# Altium footprint library HMC625BLP5E.PcbLib: 3 footprints
Each footprint in its own frame and in the unit in brackets; x right, y up, seen from the top. Pads: shape width x height; smd on the part's side, far side on the other; paste and mask are expansions set on the pad; w line width, h text height; cw(c..) or ccw(c..) is an arc to the next point about the centre after c.
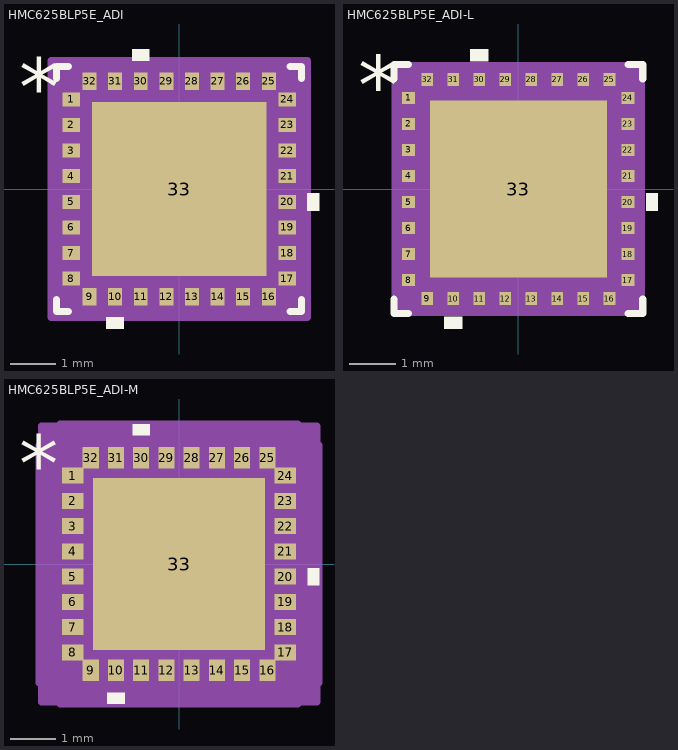
[diagram p0: the footprints below, top view; thin cyan lines are the x and y axes]

## HMC625BLP5E_ADI [mil]
pads (33):
  rect 15x12 smd paste+0 mask+0: 1(-92.89,77.17) 2(-92.89,55.12) 3(-92.89,33.07) 4(-92.89,11.02) 5(-92.89,-11.02) 6(-92.89,-33.07) 7(-92.89,-55.12) 8(-92.89,-77.17) 17(92.89,-77.17) 18(92.89,-55.12) 19(92.89,-33.07) 20(92.89,-11.02) 21(92.89,11.02) 22(92.89,33.07) 23(92.89,55.12) 24(92.89,77.17)
  rect 12x15 smd paste+0 mask+0: 9(-77.17,-92.89) 10(-55.12,-92.89) 11(-33.07,-92.89) 12(-11.02,-92.89) 13(11.02,-92.89) 14(33.07,-92.89) 15(55.12,-92.89) 16(77.17,-92.89) 25(77.17,92.89) 26(55.12,92.89) 27(33.07,92.89) 28(11.02,92.89) 29(-11.02,92.89) 30(-33.07,92.89) 31(-55.12,92.89) 32(-77.17,92.89)
  rect 150x150 smd paste-75 mask+0: 33(0,0)
Top Overlay:
  region: -47.62,-110.39 -62.62,-110.39 -62.62,-120.39 -47.62,-120.39
  region: 110.39,-3.52 120.39,-3.52 120.39,-18.52 110.39,-18.52
  region: -25.57,110.39 -40.57,110.39 -40.57,120.39 -25.57,120.39
  lines w6: -105.5,-95.23 -105.5,-105.5 -95.23,-105.5 ; -105.5,95.23 -105.5,105.5 -95.23,105.5 ; 95.23,-105.5 105.5,-105.5 105.5,-95.23 ; 95.23,105.5 105.5,105.5 105.5,95.23
  text "*" at -137.89,63.19 h50
  text ".Designator" at -137.5,-25 h50
Top Paste:
  region: -28.94,71.06 -71.06,71.06 -71.06,28.94 -28.94,28.94
  region: -28.94,21.06 -71.06,21.06 -71.06,-21.06 -28.94,-21.06
  region: -28.94,-28.94 -71.06,-28.94 -71.06,-71.06 -28.94,-71.06
  region: 21.06,71.06 -21.06,71.06 -21.06,28.94 21.06,28.94
  region: 21.06,21.06 -21.06,21.06 -21.06,-21.06 21.06,-21.06
  region: 21.06,-28.94 -21.06,-28.94 -21.06,-71.06 21.06,-71.06
  region: 71.06,71.06 28.94,71.06 28.94,28.94 71.06,28.94
  region: 71.06,21.06 28.94,21.06 28.94,-21.06 71.06,-21.06
  region: 71.06,-28.94 28.94,-28.94 28.94,-71.06 71.06,-71.06
Mechanical 13:
  lines w1: -100.5,50.5 -50.5,100.5 ; -100.5,-100.5 100.5,-100.5 ; -100.5,-100.5 -100.5,100.5 ; -100.5,-100.5 -100.5,-100.5 ; -100.5,100.5 100.5,100.5 ; -100.5,100.5 -100.5,100.5 ; 100.5,-100.5 100.5,-100.5 ; 100.5,-100.5 100.5,100.5 ; 100.5,100.5 100.5,100.5 ; -100.5,-83.17 -100.5,-71.17 -100.39,-71.17 -100.39,-83.17 -100.5,-83.17 ; -100.5,-61.12 -100.5,-49.12 -100.39,-49.12 -100.39,-61.12 -100.5,-61.12 ; -100.5,-39.07 -100.5,-27.07 -100.39,-27.07 -100.39,-39.07 -100.5,-39.07 ; -100.5,-17.02 -100.5,-5.02 -100.39,-5.02 -100.39,-17.02 -100.5,-17.02 ; -100.5,5.02 -100.5,17.02 -100.39,17.02 -100.39,5.02 -100.5,5.02 ; -100.5,27.07 -100.5,39.07 -100.39,39.07 -100.39,27.07 -100.5,27.07 ; -100.5,49.12 -100.5,61.12 -100.39,61.12 -100.39,49.12 -100.5,49.12 ; -100.5,71.17 -100.5,83.17 -100.39,83.17 -100.39,71.17 -100.5,71.17 ; -83.17,-100.5 -71.17,-100.5 -71.17,-100.39 -83.17,-100.39 -83.17,-100.5 ; -83.17,100.39 -71.17,100.39 -71.17,100.5 -83.17,100.5 -83.17,100.39 ; -61.12,-100.5 -49.12,-100.5 -49.12,-100.39 -61.12,-100.39 -61.12,-100.5 ; -61.12,100.39 -49.12,100.39 -49.12,100.5 -61.12,100.5 -61.12,100.39 ; -39.07,-100.5 -27.07,-100.5 -27.07,-100.39 -39.07,-100.39 -39.07,-100.5 ; -39.07,100.39 -27.07,100.39 -27.07,100.5 -39.07,100.5 -39.07,100.39 ; -17.02,-100.5 -5.02,-100.5 -5.02,-100.39 -17.02,-100.39 -17.02,-100.5 ; -17.02,100.39 -5.02,100.39 -5.02,100.5 -17.02,100.5 -17.02,100.39 ; 5.02,-100.5 17.02,-100.5 17.02,-100.39 5.02,-100.39 5.02,-100.5 ; 5.02,100.39 17.02,100.39 17.02,100.5 5.02,100.5 5.02,100.39 ; 27.07,-100.5 39.07,-100.5 39.07,-100.39 27.07,-100.39 27.07,-100.5 ; 27.07,100.39 39.07,100.39 39.07,100.5 27.07,100.5 27.07,100.39 ; 49.12,-100.5 61.12,-100.5 61.12,-100.39 49.12,-100.39 49.12,-100.5 ; 49.12,100.39 61.12,100.39 61.12,100.5 49.12,100.5 49.12,100.39 ; 71.17,-100.5 83.17,-100.5 83.17,-100.39 71.17,-100.39 71.17,-100.5 ; 71.17,100.39 83.17,100.39 83.17,100.5 71.17,100.5 71.17,100.39 ; 100.39,-83.17 100.5,-83.17 100.5,-71.17 100.39,-71.17 100.39,-83.17 ; 100.39,-61.12 100.5,-61.12 100.5,-49.12 100.39,-49.12 100.39,-61.12 ; 100.39,-39.07 100.5,-39.07 100.5,-27.07 100.39,-27.07 100.39,-39.07 ; 100.39,-17.02 100.5,-17.02 100.5,-5.02 100.39,-5.02 100.39,-17.02 ; 100.39,5.02 100.5,5.02 100.5,17.02 100.39,17.02 100.39,5.02 ; 100.39,27.07 100.5,27.07 100.5,39.07 100.39,39.07 100.39,27.07 ; 100.39,49.12 100.5,49.12 100.5,61.12 100.39,61.12 100.39,49.12 ; 100.39,71.17 100.5,71.17 100.5,83.17 100.39,83.17 100.39,71.17
  text ".Designator" at -137.5,-25 h50
  text "*" at -97.89,63.19 h50
Mechanical 15:
  region: -93.17,-110.5 -110.5,-110.5 -110.5,-93.17 -110.5,93.17 -110.5,110.5 -93.17,110.5 93.17,110.5 110.5,110.5 110.5,93.17 110.5,-93.17 110.5,-110.5 93.17,-110.5
  lines w6: -110.5,-93.17 -110.5,-110.5 -93.17,-110.5 ; -110.5,-93.17 -110.5,-93.17 ; -110.5,-93.17 -110.5,93.17 ; -110.5,93.17 -110.5,93.17 ; -110.5,93.17 -110.5,110.5 -93.17,110.5 ; -93.17,-110.5 93.17,-110.5 ; -93.17,-110.5 -93.17,-110.5 ; -93.17,110.5 -93.17,110.5 ; -93.17,110.5 93.17,110.5 ; 93.17,-110.5 110.5,-110.5 110.5,-93.17 ; 93.17,-110.5 93.17,-110.5 ; 93.17,110.5 93.17,110.5 ; 93.17,110.5 110.5,110.5 110.5,93.17 ; 110.5,-93.17 110.5,93.17 ; 110.5,-93.17 110.5,-93.17 ; 110.5,93.17 110.5,93.17
3D body "HMC625BLP5E_ADI.step": height 39.09, standoff 0, extent -100.51,-100.51 100.51,100.51

## HMC625BLP5E_ADI-L [mil]
pads (33):
  rect 11x10 smd paste+0 mask+0: 1(-92.89,77.17) 2(-92.89,55.12) 3(-92.89,33.07) 4(-92.89,11.02) 5(-92.89,-11.02) 6(-92.89,-33.07) 7(-92.89,-55.12) 8(-92.89,-77.17) 17(92.89,-77.17) 18(92.89,-55.12) 19(92.89,-33.07) 20(92.89,-11.02) 21(92.89,11.02) 22(92.89,33.07) 23(92.89,55.12) 24(92.89,77.17)
  rect 10x11 smd paste+0 mask+0: 9(-77.17,-92.89) 10(-55.12,-92.89) 11(-33.07,-92.89) 12(-11.02,-92.89) 13(11.02,-92.89) 14(33.07,-92.89) 15(55.12,-92.89) 16(77.17,-92.89) 25(77.17,92.89) 26(55.12,92.89) 27(33.07,92.89) 28(11.02,92.89) 29(-11.02,92.89) 30(-33.07,92.89) 31(-55.12,92.89) 32(-77.17,92.89)
  rect 150x150 smd paste-75 mask+0: 33(0,0)
Top Overlay:
  region: -47.62,-108.39 -62.62,-108.39 -62.62,-118.39 -47.62,-118.39
  region: 108.39,-3.52 118.39,-3.52 118.39,-18.52 108.39,-18.52
  region: -25.57,108.39 -40.57,108.39 -40.57,118.39 -25.57,118.39
  lines w6: -105.5,-93.17 -105.5,-105.5 -93.17,-105.5 ; -105.5,93.17 -105.5,105.5 -93.17,105.5 ; 93.17,-105.5 105.5,-105.5 105.5,-93.17 ; 93.17,105.5 105.5,105.5 105.5,93.17
  text "*" at -135.89,63.19 h50
  text ".Designator" at -137.5,-25 h50
Top Paste:
  region: -28.94,71.06 -71.06,71.06 -71.06,28.94 -28.94,28.94
  region: -28.94,21.06 -71.06,21.06 -71.06,-21.06 -28.94,-21.06
  region: -28.94,-28.94 -71.06,-28.94 -71.06,-71.06 -28.94,-71.06
  region: 21.06,71.06 -21.06,71.06 -21.06,28.94 21.06,28.94
  region: 21.06,21.06 -21.06,21.06 -21.06,-21.06 21.06,-21.06
  region: 21.06,-28.94 -21.06,-28.94 -21.06,-71.06 21.06,-71.06
  region: 71.06,71.06 28.94,71.06 28.94,28.94 71.06,28.94
  region: 71.06,21.06 28.94,21.06 28.94,-21.06 71.06,-21.06
  region: 71.06,-28.94 28.94,-28.94 28.94,-71.06 71.06,-71.06
Mechanical 13:
  lines w1: -100.5,50.5 -50.5,100.5 ; -100.5,-100.5 100.5,-100.5 ; -100.5,-100.5 -100.5,100.5 ; -100.5,-100.5 -100.5,-100.5 ; -100.5,100.5 100.5,100.5 ; -100.5,100.5 -100.5,100.5 ; 100.5,-100.5 100.5,-100.5 ; 100.5,-100.5 100.5,100.5 ; 100.5,100.5 100.5,100.5 ; -100.5,-83.17 -100.5,-71.17 -100.39,-71.17 -100.39,-83.17 -100.5,-83.17 ; -100.5,-61.12 -100.5,-49.12 -100.39,-49.12 -100.39,-61.12 -100.5,-61.12 ; -100.5,-39.07 -100.5,-27.07 -100.39,-27.07 -100.39,-39.07 -100.5,-39.07 ; -100.5,-17.02 -100.5,-5.02 -100.39,-5.02 -100.39,-17.02 -100.5,-17.02 ; -100.5,5.02 -100.5,17.02 -100.39,17.02 -100.39,5.02 -100.5,5.02 ; -100.5,27.07 -100.5,39.07 -100.39,39.07 -100.39,27.07 -100.5,27.07 ; -100.5,49.12 -100.5,61.12 -100.39,61.12 -100.39,49.12 -100.5,49.12 ; -100.5,71.17 -100.5,83.17 -100.39,83.17 -100.39,71.17 -100.5,71.17 ; -83.17,-100.5 -71.17,-100.5 -71.17,-100.39 -83.17,-100.39 -83.17,-100.5 ; -83.17,100.39 -71.17,100.39 -71.17,100.5 -83.17,100.5 -83.17,100.39 ; -61.12,-100.5 -49.12,-100.5 -49.12,-100.39 -61.12,-100.39 -61.12,-100.5 ; -61.12,100.39 -49.12,100.39 -49.12,100.5 -61.12,100.5 -61.12,100.39 ; -39.07,-100.5 -27.07,-100.5 -27.07,-100.39 -39.07,-100.39 -39.07,-100.5 ; -39.07,100.39 -27.07,100.39 -27.07,100.5 -39.07,100.5 -39.07,100.39 ; -17.02,-100.5 -5.02,-100.5 -5.02,-100.39 -17.02,-100.39 -17.02,-100.5 ; -17.02,100.39 -5.02,100.39 -5.02,100.5 -17.02,100.5 -17.02,100.39 ; 5.02,-100.5 17.02,-100.5 17.02,-100.39 5.02,-100.39 5.02,-100.5 ; 5.02,100.39 17.02,100.39 17.02,100.5 5.02,100.5 5.02,100.39 ; 27.07,-100.5 39.07,-100.5 39.07,-100.39 27.07,-100.39 27.07,-100.5 ; 27.07,100.39 39.07,100.39 39.07,100.5 27.07,100.5 27.07,100.39 ; 49.12,-100.5 61.12,-100.5 61.12,-100.39 49.12,-100.39 49.12,-100.5 ; 49.12,100.39 61.12,100.39 61.12,100.5 49.12,100.5 49.12,100.39 ; 71.17,-100.5 83.17,-100.5 83.17,-100.39 71.17,-100.39 71.17,-100.5 ; 71.17,100.39 83.17,100.39 83.17,100.5 71.17,100.5 71.17,100.39 ; 100.39,-83.17 100.5,-83.17 100.5,-71.17 100.39,-71.17 100.39,-83.17 ; 100.39,-61.12 100.5,-61.12 100.5,-49.12 100.39,-49.12 100.39,-61.12 ; 100.39,-39.07 100.5,-39.07 100.5,-27.07 100.39,-27.07 100.39,-39.07 ; 100.39,-17.02 100.5,-17.02 100.5,-5.02 100.39,-5.02 100.39,-17.02 ; 100.39,5.02 100.5,5.02 100.5,17.02 100.39,17.02 100.39,5.02 ; 100.39,27.07 100.5,27.07 100.5,39.07 100.39,39.07 100.39,27.07 ; 100.39,49.12 100.5,49.12 100.5,61.12 100.39,61.12 100.39,49.12 ; 100.39,71.17 100.5,71.17 100.5,83.17 100.39,83.17 100.39,71.17
  text ".Designator" at -137.5,-25 h50
  text "*" at -99.89,63.19 h50
Mechanical 15:
  region: -86.17,-104.5 -104.5,-104.5 -104.5,-86.17 -104.5,86.17 -104.5,104.5 -86.17,104.5 86.17,104.5 104.5,104.5 104.5,86.17 104.5,-86.17 104.5,-104.5 86.17,-104.5
  lines w6: -104.5,-86.17 -104.5,-104.5 -86.17,-104.5 ; -104.5,-86.17 -104.5,-86.17 ; -104.5,-86.17 -104.5,86.17 ; -104.5,86.17 -104.5,86.17 ; -104.5,86.17 -104.5,104.5 -86.17,104.5 ; -86.17,-104.5 86.17,-104.5 ; -86.17,-104.5 -86.17,-104.5 ; -86.17,104.5 -86.17,104.5 ; -86.17,104.5 86.17,104.5 ; 86.17,-104.5 104.5,-104.5 104.5,-86.17 ; 86.17,-104.5 86.17,-104.5 ; 86.17,104.5 86.17,104.5 ; 86.17,104.5 104.5,104.5 104.5,86.17 ; 104.5,-86.17 104.5,86.17 ; 104.5,-86.17 104.5,-86.17 ; 104.5,86.17 104.5,86.17
3D body "HMC625BLP5E_ADI.step": height 39.09, standoff 0, extent -100.51,-100.51 100.51,100.51

## HMC625BLP5E_ADI-M [mil]
pads (33):
  rect 19x14 smd paste+0 mask+0: 1(-92.89,77.17) 2(-92.89,55.12) 3(-92.89,33.07) 4(-92.89,11.02) 5(-92.89,-11.02) 6(-92.89,-33.07) 7(-92.89,-55.12) 8(-92.89,-77.17) 17(92.89,-77.17) 18(92.89,-55.12) 19(92.89,-33.07) 20(92.89,-11.02) 21(92.89,11.02) 22(92.89,33.07) 23(92.89,55.12) 24(92.89,77.17)
  rect 14x19 smd paste+0 mask+0: 9(-77.17,-92.89) 10(-55.12,-92.89) 11(-33.07,-92.89) 12(-11.02,-92.89) 13(11.02,-92.89) 14(33.07,-92.89) 15(55.12,-92.89) 16(77.17,-92.89) 25(77.17,92.89) 26(55.12,92.89) 27(33.07,92.89) 28(11.02,92.89) 29(-11.02,92.89) 30(-33.07,92.89) 31(-55.12,92.89) 32(-77.17,92.89)
  rect 150x150 smd paste-75 mask+0: 33(0,0)
Top Overlay:
  region: -47.62,-112.39 -62.62,-112.39 -62.62,-122.39 -47.62,-122.39
  region: 112.39,-3.52 122.39,-3.52 122.39,-18.52 112.39,-18.52
  region: -25.57,112.39 -40.57,112.39 -40.57,122.39 -25.57,122.39
  text "*" at -139.89,63.19 h50
  text ".Designator" at -137.5,-25 h50
Top Paste:
  region: -28.94,71.06 -71.06,71.06 -71.06,28.94 -28.94,28.94
  region: -28.94,21.06 -71.06,21.06 -71.06,-21.06 -28.94,-21.06
  region: -28.94,-28.94 -71.06,-28.94 -71.06,-71.06 -28.94,-71.06
  region: 21.06,71.06 -21.06,71.06 -21.06,28.94 21.06,28.94
  region: 21.06,21.06 -21.06,21.06 -21.06,-21.06 21.06,-21.06
  region: 21.06,-28.94 -21.06,-28.94 -21.06,-71.06 21.06,-71.06
  region: 71.06,71.06 28.94,71.06 28.94,28.94 71.06,28.94
  region: 71.06,21.06 28.94,21.06 28.94,-21.06 71.06,-21.06
  region: 71.06,-28.94 28.94,-28.94 28.94,-71.06 71.06,-71.06
Mechanical 13:
  lines w1: -100.5,50.5 -50.5,100.5 ; -100.5,-100.5 100.5,-100.5 ; -100.5,-100.5 -100.5,100.5 ; -100.5,-100.5 -100.5,-100.5 ; -100.5,100.5 100.5,100.5 ; -100.5,100.5 -100.5,100.5 ; 100.5,-100.5 100.5,-100.5 ; 100.5,-100.5 100.5,100.5 ; 100.5,100.5 100.5,100.5 ; -100.5,-83.17 -100.5,-71.17 -100.39,-71.17 -100.39,-83.17 -100.5,-83.17 ; -100.5,-61.12 -100.5,-49.12 -100.39,-49.12 -100.39,-61.12 -100.5,-61.12 ; -100.5,-39.07 -100.5,-27.07 -100.39,-27.07 -100.39,-39.07 -100.5,-39.07 ; -100.5,-17.02 -100.5,-5.02 -100.39,-5.02 -100.39,-17.02 -100.5,-17.02 ; -100.5,5.02 -100.5,17.02 -100.39,17.02 -100.39,5.02 -100.5,5.02 ; -100.5,27.07 -100.5,39.07 -100.39,39.07 -100.39,27.07 -100.5,27.07 ; -100.5,49.12 -100.5,61.12 -100.39,61.12 -100.39,49.12 -100.5,49.12 ; -100.5,71.17 -100.5,83.17 -100.39,83.17 -100.39,71.17 -100.5,71.17 ; -83.17,-100.5 -71.17,-100.5 -71.17,-100.39 -83.17,-100.39 -83.17,-100.5 ; -83.17,100.39 -71.17,100.39 -71.17,100.5 -83.17,100.5 -83.17,100.39 ; -61.12,-100.5 -49.12,-100.5 -49.12,-100.39 -61.12,-100.39 -61.12,-100.5 ; -61.12,100.39 -49.12,100.39 -49.12,100.5 -61.12,100.5 -61.12,100.39 ; -39.07,-100.5 -27.07,-100.5 -27.07,-100.39 -39.07,-100.39 -39.07,-100.5 ; -39.07,100.39 -27.07,100.39 -27.07,100.5 -39.07,100.5 -39.07,100.39 ; -17.02,-100.5 -5.02,-100.5 -5.02,-100.39 -17.02,-100.39 -17.02,-100.5 ; -17.02,100.39 -5.02,100.39 -5.02,100.5 -17.02,100.5 -17.02,100.39 ; 5.02,-100.5 17.02,-100.5 17.02,-100.39 5.02,-100.39 5.02,-100.5 ; 5.02,100.39 17.02,100.39 17.02,100.5 5.02,100.5 5.02,100.39 ; 27.07,-100.5 39.07,-100.5 39.07,-100.39 27.07,-100.39 27.07,-100.5 ; 27.07,100.39 39.07,100.39 39.07,100.5 27.07,100.5 27.07,100.39 ; 49.12,-100.5 61.12,-100.5 61.12,-100.39 49.12,-100.39 49.12,-100.5 ; 49.12,100.39 61.12,100.39 61.12,100.5 49.12,100.5 49.12,100.39 ; 71.17,-100.5 83.17,-100.5 83.17,-100.39 71.17,-100.39 71.17,-100.5 ; 71.17,100.39 83.17,100.39 83.17,100.5 71.17,100.5 71.17,100.39 ; 100.39,-83.17 100.5,-83.17 100.5,-71.17 100.39,-71.17 100.39,-83.17 ; 100.39,-61.12 100.5,-61.12 100.5,-49.12 100.39,-49.12 100.39,-61.12 ; 100.39,-39.07 100.5,-39.07 100.5,-27.07 100.39,-27.07 100.39,-39.07 ; 100.39,-17.02 100.5,-17.02 100.5,-5.02 100.39,-5.02 100.39,-17.02 ; 100.39,5.02 100.5,5.02 100.5,17.02 100.39,17.02 100.39,5.02 ; 100.39,27.07 100.5,27.07 100.5,39.07 100.39,39.07 100.39,27.07 ; 100.39,49.12 100.5,49.12 100.5,61.12 100.39,61.12 100.39,49.12 ; 100.39,71.17 100.5,71.17 100.5,83.17 100.39,83.17 100.39,71.17
  text ".Designator" at -137.5,-25 h50
  text "*" at -95.89,63.19 h50
Mechanical 15:
  region: -104.17,-120.5 -120.5,-120.5 -120.5,-104.17 -122.39,-104.17 -122.39,104.17 -120.5,104.17 -120.5,120.5 -104.17,120.5 -104.17,122.39 104.17,122.39 104.17,120.5 120.5,120.5 120.5,104.17 122.39,104.17 122.39,-104.17 120.5,-104.17 120.5,-120.5 104.17,-120.5 104.17,-122.39 -104.17,-122.39
  lines w6: -122.39,-104.17 -120.5,-104.17 -120.5,-120.5 -104.17,-120.5 -104.17,-122.39 104.17,-122.39 104.17,-120.5 120.5,-120.5 120.5,-104.17 122.39,-104.17 122.39,104.17 120.5,104.17 120.5,120.5 104.17,120.5 104.17,122.39 -104.17,122.39 -104.17,120.5 -120.5,120.5 -120.5,104.17 -122.39,104.17 -122.39,-104.17
3D body "HMC625BLP5E_ADI.step": height 39.09, standoff 0, extent -100.51,-100.51 100.51,100.51